# EAGLE library part ADS1112IDGST (library bbauv)
16-Bit Analog-to-Digital Converter with Input Multiplexer and Onboard Reference
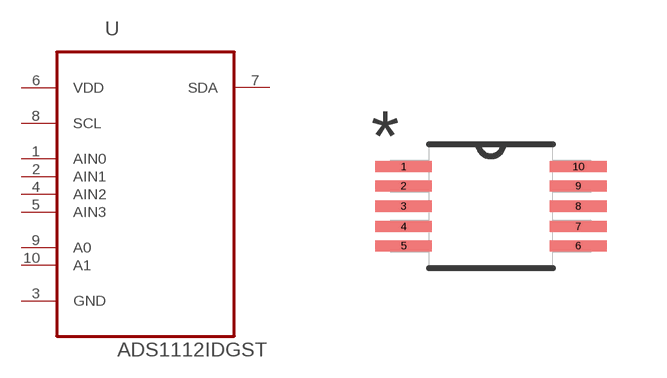
[diagram p3: symbol with the pads of SOP50P490X110-10N; footprint SOP50P490X110-10N]

Designator prefix U

## ADS1112IDGST (MPN: ADS1112IDGST; OC_FARNELL: 1234811; OC_NEWARK: 73H4116; PACKAGE: MSOP-10; SUPPLIER: Texas Instruments)  [SOP50P490X110-10N]
1  AIN0  in
2  AIN1  in
3  GND  pas
4  AIN2  in
5  AIN3  in
6  VDD  pwr
7  SDA  out
8  SCL  in
9  A0  in
10  A1  in

## Footprint SOP50P490X110-10N (pad centres in mm)
smd 1.422 x 0.279: 1 -2.184,0.991; 2 -2.184,0.508; 3 -2.184,0; 4 -2.184,-0.508; 5 -2.184,-0.991; 6 2.184,-0.991; 7 2.184,-0.508; 8 2.184,0; 9 2.184,0.508; 10 2.184,0.991